# Altium footprint library 羽毛球团队.PcbLib: 75 footprints (part 1 of 5)
Each footprint in its own frame and in the unit in brackets; x right, y up, seen from the top. Pads: shape width x height; smd on the part's side, far side on the other; paste and mask are expansions set on the pad; w line width, h text height; cw(c..) or ccw(c..) is an arc to the next point about the centre after c.
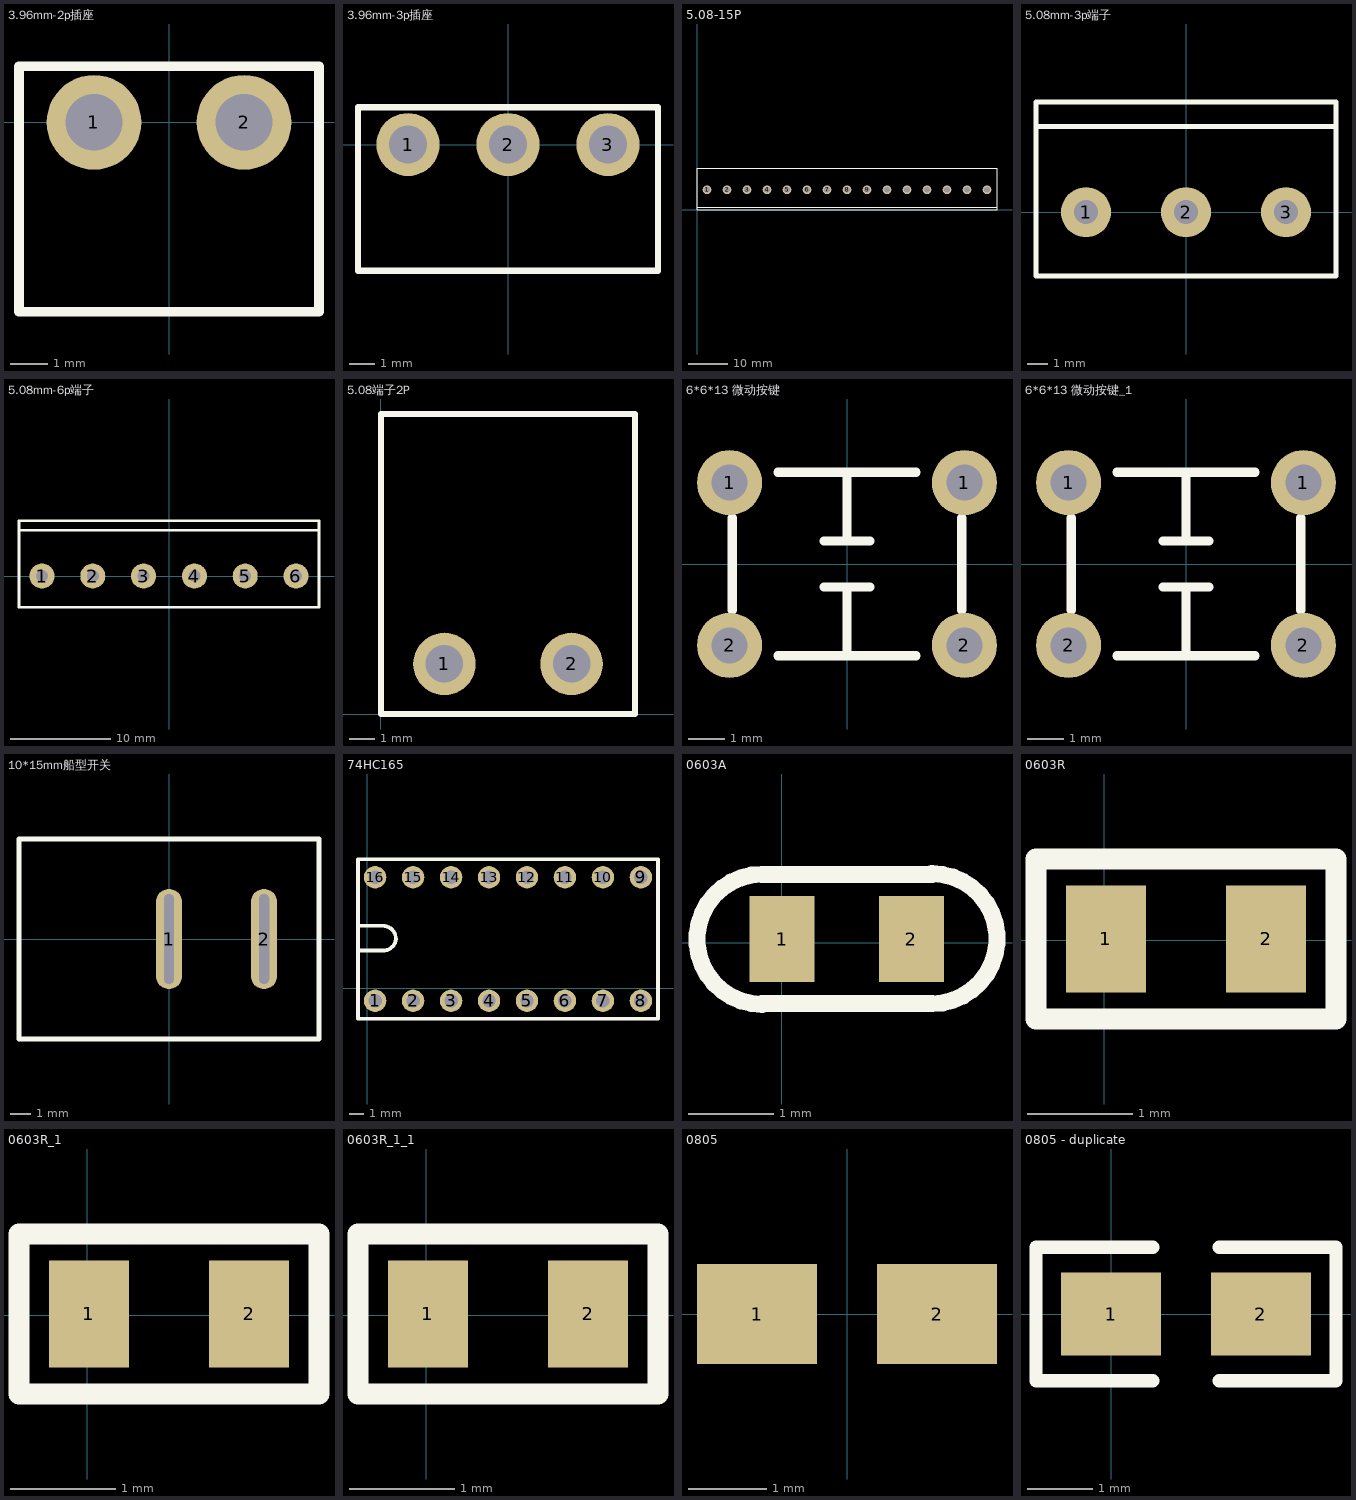
[diagram p0: the footprints below, top view; thin cyan lines are the x and y axes]

## 3.96mm-2p插座 [mm]
pads (2):
  round 2.5 hole 1.5: 1(-1.98,0) 2(1.98,0)
Top Overlay:
  lines w0.254: -3.96,-5 3.96,-5 3.96,1.48 -3.96,1.48 -3.96,-5

## 3.96mm-3p插座 [mm]
pads (3):
  round 2.5 hole 1.5: 1(-3.96,0) 2(0,0) 3(3.96,0)
Top Overlay:
  lines w0.254: -5.94,-5 5.94,-5 5.94,1.48 -5.94,1.48 -5.94,-5

## 5.08-15P [mm]
pads (15):
  round 2.2 hole 1.4: 1(2.54,5.03) 2(7.62,5.03) 3(12.7,5.08) 4(17.78,5.03) 5(22.86,5.03) 6(27.94,5.03) 7(33.02,5.03) 8(38.1,5.03) 9(43.18,5.03) 10(48.26,5.03) 11(53.34,5.03) 12(58.42,5.03) 13(63.5,5.03) 14(68.58,5.03) 15(73.66,5.03)
Top Overlay:
  lines w0.254: 0,0.635 76.2,0.635 ; 0,0 0,10.5 76.2,10.5 76.2,0 0,0

## 5.08mm-3p端子 [mm]
pads (3):
  round 2.5 hole 1.2: 1(-5,0) 2(0,0) 3(5,0)
Top Overlay:
  lines w0.254: -7.5,4.278 7.5,4.278 ; -7.5,5.5 -7.5,-3.2 7.5,-3.2 7.5,5.5 ; -7.5,5.516 7.5,5.516

## 5.08mm-6p端子 [mm]
pads (6):
  round 2.5 hole 1.2: 1(-12.7,0) 2(-7.62,0) 3(-2.54,0) 4(2.54,0) 5(7.62,0) 6(12.7,0)
Top Overlay:
  lines w0.254: -15,4.572 15,4.572 ; -15,5.5 -15,-3.1 15,-3.1 15,5.5 ; -15,5.516 15,5.516

## 5.08端子2P [mm]
pads (2):
  round 2.5 hole 1.5: 1(2.54,2) 2(7.62,2)
Top Overlay:
  lines w0.254: 0,0 0,12 10.16,12 10.16,0 0,0

## 6*6*13 微动按键 [mm]
height 1.75
pads (4):
  round 1.8 hole 1: 1(-3.25,2.25) 1(3.25,2.25) 2(-3.25,-2.25) 2(3.25,-2.25)
Top Overlay:
  lines w0.254: -3.175,-1.27 -3.175,1.27 ; -1.905,-2.54 1.905,-2.54 ; -1.905,2.54 1.905,2.54 ; -0.635,-0.635 0.635,-0.635 ; -0.635,0.635 0.635,0.635 ; 0,-2.54 0,-0.635 ; 0,0.635 0,2.54 ; 3.175,-1.27 3.175,1.27

## 6*6*13 微动按键_1 [mm]
pads (4):
  round 1.8 hole 1: 1(-3.25,2.25) 1(3.25,2.25) 2(-3.25,-2.25) 2(3.25,-2.25)
Top Overlay:
  lines w0.254: -3.175,-1.27 -3.175,1.27 ; -1.905,-2.54 1.905,-2.54 ; -1.905,2.54 1.905,2.54 ; -0.635,-0.635 0.635,-0.635 ; -0.635,0.635 0.635,0.635 ; 0,-2.54 0,-0.635 ; 0,0.635 0,2.54 ; 3.175,-1.27 3.175,1.27

## 10*15mm船型开关 [mm]
pads (2):
  oval 1.3x5 hole 0.5 slot 4.5 at 90 deg: 1(0,0) 2(4.75,0)
Top Overlay:
  lines w0.254: -7.5,-5 7.5,-5 7.5,5 -7.5,5 -7.5,-5

## 74HC165 [mm]
pads (16):
  round 1.5 hole 0.9: 1(0.508,-0.83) 2(3.048,-0.83) 3(5.588,-0.83) 4(8.128,-0.83) 5(10.668,-0.83) 6(13.208,-0.83) 7(15.748,-0.83) 8(18.288,-0.83) 9(18.288,7.43) 10(15.748,7.43) 11(13.208,7.43) 12(10.668,7.43) 13(8.128,7.43) 14(5.588,7.43) 15(3.048,7.43) 16(0.508,7.43)
Top Overlay:
  lines w0.254: -0.635,2.54 1.016,2.54 ccw(c1.079,3.366) 1.905,3.302 ccw(c1.016,3.302) 1.016,4.191 -0.635,4.191 ; -0.635,-2.032 -0.635,8.636 19.431,8.636 19.431,-2.032 -0.635,-2.032

## 0603A [mil]
height 68.9
pads (2):
  rect 30x40 smd: 1(0.15,1.65) 2(60.15,1.65)
Top Overlay:
  lines w7.87: -9.1,-28.63 cw(c-9.1,1.51) -9.1,31.65 69.64,31.65 ; -9.1,-28.35 69.64,-28.35 ccw(c69.64,1.8) 69.64,31.94

## 0603R [mil]
height 68.9
pads (2):
  rect 30x40 smd: 1(0.66,0.41) 2(60.66,0.41)
Top Overlay:
  lines w7.87: 86.8,-29.63 86.8,30.41 -25.48,30.41 -25.48,-29.59 86.8,-29.59

## 0603R_1 [mil]
pads (2):
  rect 30x40 smd: 1(0.66,0.41) 2(60.66,0.41)
Top Overlay:
  lines w7.87: 86.8,-29.63 86.8,30.41 -25.48,30.41 -25.48,-29.59 86.8,-29.59

## 0603R_1_1 [mil]
pads (2):
  rect 30x40 smd: 1(0.66,0.41) 2(60.66,0.41)
Top Overlay:
  lines w7.87: 86.8,-29.63 86.8,30.41 -25.48,30.41 -25.48,-29.59 86.8,-29.59

## 0805 [mil]
height 68.9
pads (2):
  rect 60x50 smd: 1(-45,0) 2(45,0)

## 0805 - duplicate [mil]
pads (2):
  rect 60x50 smd: 1(0,0) 2(90,0)
Top Overlay:
  lines w8: 25,-40 -45,-40 -45,40 25,40 ; 65,-40 135,-40 135,40 65,40